# EAGLE library part LT1965* (library NewSDR)
1.1A, Low Noise, Low Dropout LDO
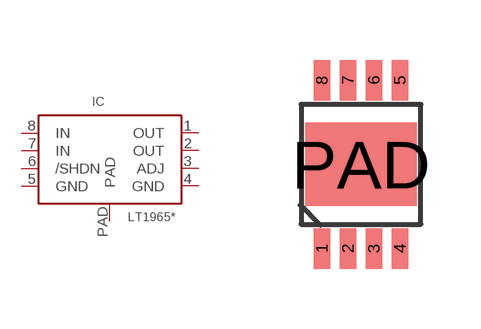
[diagram p121: symbol with the pads of MSE8; footprint MSE8]

Designator prefix IC

## LT1965EMS8E, LT1965-1.5EMS8E, LT1965-1.8EMS8E, LT1965-2.5EMS8E, LT1965-3.3EMS8E  [MSE8]
1  OUT  pwr
2  OUT  pwr
3  ADJ  pas
4  GND  pwr
5  GND  pwr
6  /SHDN  in
7  IN  pwr
8  IN  pwr
PAD  PAD  pwr

## Footprint MSE8 (pad centres in mm)
smd 0.419 x 1.016: 1 -0.975,-2.108; 2 -0.325,-2.108; 3 0.325,-2.108; 4 0.975,-2.108; 5 0.975,2.108; 6 0.325,2.108; 7 -0.325,2.108; 8 -0.975,2.108
smd 2.794 x 2.083: PAD 0,0